# EAGLE library part RPI-ZERO (library RPI-Zero)
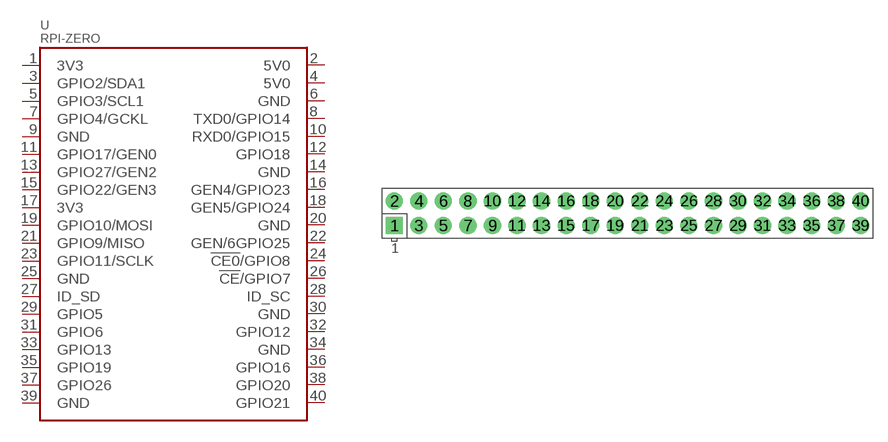
[diagram p0: symbol with the pads of RASPBERRYPI_BASTELSTUBE_V13_RASPI_BOARD_B+_FULL; footprint RASPBERRYPI_BASTELSTUBE_V13_RASPI_BOARD_B+_FULL]

Designator prefix -

## RPI-ZERO  [RASPBERRYPI_BASTELSTUBE_V13_RASPI_BOARD_B+_FULL]
1  3V3  sup
2  5V0  sup
3  GPIO2/SDA1
4  5V0  sup
5  GPIO3/SCL1
6  GND  sup
7  GPIO4/GCKL
8  TXD0/GPIO14
9  GND  sup
10  RXD0/GPIO15
11  GPIO17/GEN0
12  GPIO18
13  GPIO27/GEN2
14  GND  sup
15  GPIO22/GEN3
16  GEN4/GPIO23
17  3V3  sup
18  GEN5/GPIO24
19  GPIO10/MOSI
20  GND  sup
21  GPIO9/MISO
22  GEN/6GPIO25
23  GPIO11/SCLK
24  !CE0!/GPIO8
25  GND  sup
26  !CE!/GPIO7
27  ID_SD
28  ID_SC
29  GPIO5
30  GND  sup
31  GPIO6
32  GPIO12
33  GPIO13
34  GND  sup
35  GPIO19
36  GPIO16
37  GPIO26
38  GPIO20
39  GND  sup
40  GPIO21

## Footprint RASPBERRYPI_BASTELSTUBE_V13_RASPI_BOARD_B+_FULL (pad centres in mm)
Raspberry Pi board model B+, full outline with position of big connectors & drill holes
drill 1 pad 1.778 square: 1 -23.38,2.37
drill 1 pad 1.778: 2 -23.38,4.91; 3 -20.84,2.37; 4 -20.84,4.91; 5 -18.3,2.37; 6 -18.3,4.91; 7 -15.76,2.37; 8 -15.76,4.91; 9 -13.22,2.37; 10 -13.22,4.91; 11 -10.68,2.37; 12 -10.68,4.91; 13 -8.14,2.37; 14 -8.14,4.91; 15 -5.6,2.37; 16 -5.6,4.91; 17 -3.06,2.37; 18 -3.06,4.91; 19 -0.52,2.37; 20 -0.52,4.91; 21 2.02,2.37; 22 2.02,4.91; 23 4.56,2.37; 24 4.56,4.91; 25 7.1,2.37; 26 7.1,4.91; 27 9.64,2.37; 28 9.64,4.91; 29 12.18,2.37; 30 12.18,4.91; 31 14.72,2.37; 32 14.72,4.91; 33 17.26,2.37; 34 17.26,4.91; 35 19.8,2.37; 36 19.8,4.91; 37 22.34,2.37; 38 22.34,4.91; 39 24.88,2.37; 40 24.88,4.91